# EAGLE library part EXP1.3-D (library usb-fpga-1)
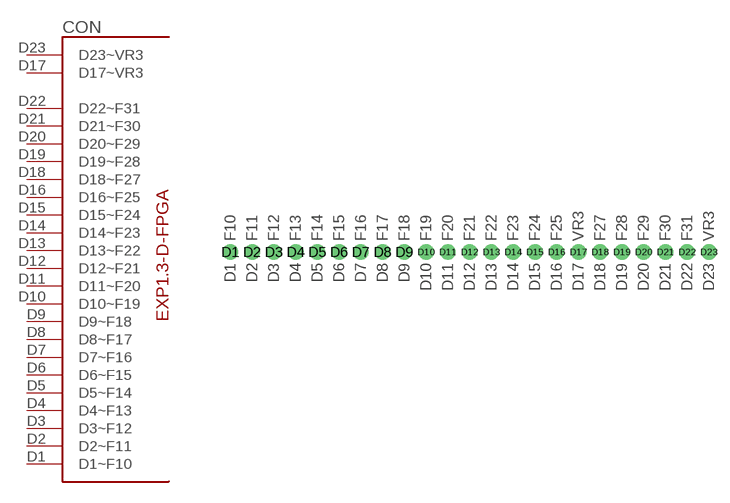
[diagram p16: symbol with the pads of EXP1.3-D; footprint EXP1.3-D]

Designator prefix CON

## EXP1.3-D  [EXP1.3-D]
D1  D1~F10
D2  D2~F11
D3  D3~F12
D4  D4~F13
D5  D5~F14
D6  D6~F15
D7  D7~F16
D8  D8~F17
D9  D9~F18
D10  D10~F19
D11  D11~F20
D12  D12~F21
D13  D13~F22
D14  D14~F23
D15  D15~F24
D16  D16~F25
D17  D17~VR3
D18  D18~F27
D19  D19~F28
D20  D20~F29
D21  D21~F30
D22  D22~F31
D23  D23~VR3

## Footprint EXP1.3-D (pad centres in mm)
drill 1.2 round: D1 0,0; D2 2.54,0; D3 5.08,0; D4 7.62,0; D5 10.16,0; D6 12.7,0; D7 15.24,0; D8 17.78,0; D9 20.32,0; D10 22.86,0; D11 25.4,0; D12 27.94,0; D13 30.48,0; D14 33.02,0; D15 35.56,0; D16 38.1,0; D17 40.64,0; D18 43.18,0; D19 45.72,0; D20 48.26,0; D21 50.8,0; D22 53.34,0; D23 55.88,0